# EAGLE library part OPA_OPA2344 (library akita)
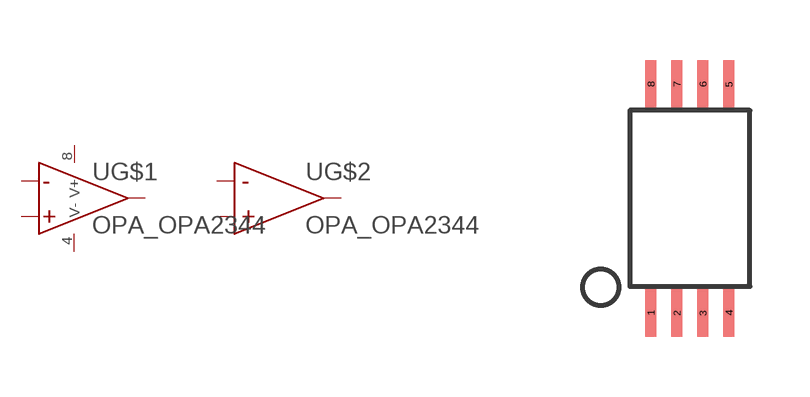
[diagram p64: symbol with the pads of TSSOP8; footprint TSSOP8]

Designator prefix U; gates G$1=OPA_SGL G$2=OPA_SGL_NOPOW

## OPA_OPA2344DGK  [TSSOP8]
1  G$1:VO
2  G$1:INM
3  G$1:INP
4  G$1:V-
5  G$2:INP
6  G$2:INM
7  G$2:VO
8  G$1:V+

## Footprint TSSOP8 (pad centres in mm)
http://www.ti.com/lit/ds/symlink/lm358.pdf
smd 0.27 x 1.2: 1 -0.975,-2.86; 2 -0.325,-2.86; 3 0.325,-2.86; 4 0.975,-2.86; 5 0.975,2.86; 6 0.325,2.86; 7 -0.325,2.86; 8 -0.975,2.86